# EAGLE library part TPS6300X (library 24x16_RGB_ATXMega_Wifi_BBuck)
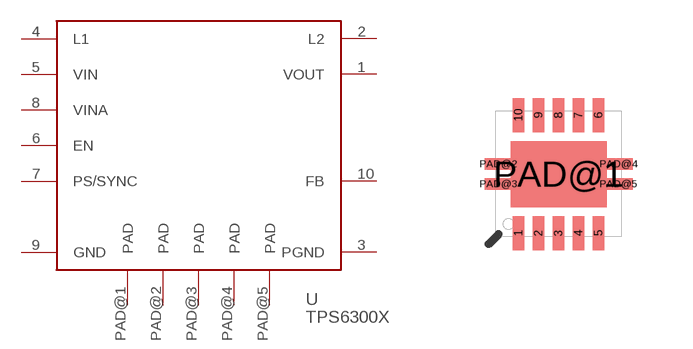
[diagram p6: symbol with the pads of QFN_10_PAD; footprint QFN_10_PAD]

Designator prefix -

## TPS6300X  [QFN_10_PAD]
1  VOUT  pas
2  L2  pas
3  PGND  sup
4  L1  pas
5  VIN  sup
6  EN  in
7  PS/SYNC  in
8  VINA  pas
9  GND  sup
10  FB  pas
PAD@1  PAD  sup
PAD@2  PAD  sup
PAD@3  PAD  sup
PAD@4  PAD  sup
PAD@5  PAD  sup

## Footprint QFN_10_PAD (pad centres in mm)
smd 0.297 x 0.85: 1 -1,-1.475; 2 -0.5,-1.475; 3 0,-1.475; 4 0.5,-1.475; 5 1,-1.475; 6 1,1.475; 7 0.5,1.475; 8 0,1.475; 9 -0.5,1.475; 10 -1,1.475
smd 2.4 x 1.65: PAD@1 0,0
smd 0.7 x 0.28: PAD@2 -1.5,0.25; PAD@3 -1.5,-0.25; PAD@4 1.5,0.25; PAD@5 1.5,-0.25